# Altium footprint library PcbLib.PcbLib: 7 footprints
Each footprint in its own frame and in the unit in brackets; x right, y up, seen from the top. Pads: shape width x height; smd on the part's side, far side on the other; paste and mask are expansions set on the pad; w line width, h text height; cw(c..) or ccw(c..) is an arc to the next point about the centre after c.
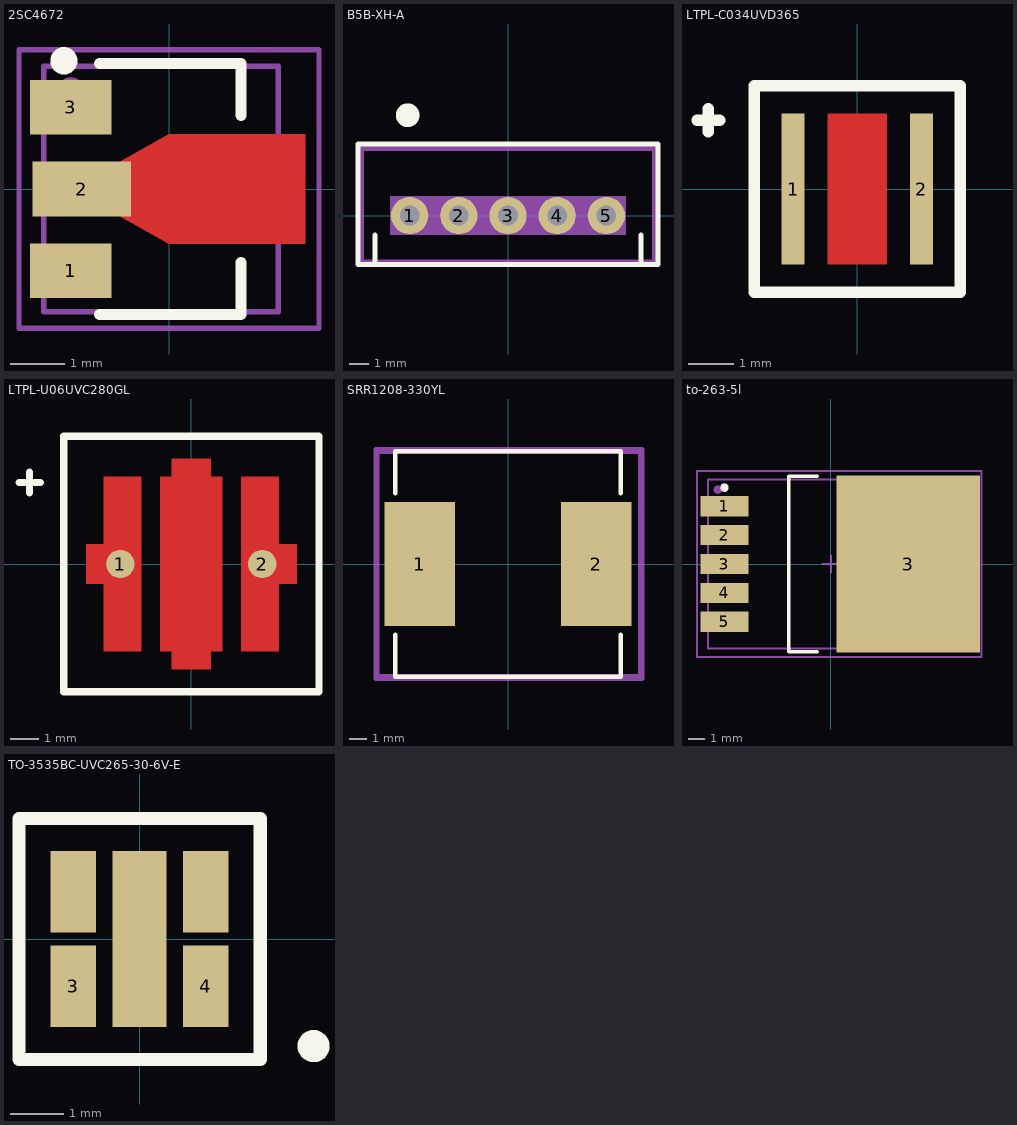
[diagram p0: the footprints below, top view; thin cyan lines are the x and y axes]

## 2SC4672 [mm] "Transistor"
pads (4):
  rect 1.5x1 smd: 1(-1.8,-1.5) 3(-1.8,1.5)
  rect 1.8x1 smd: 2(-1.6,0)
  round 0.5 on Mech1: ""(-1.8,1.8)
Top Layer:
  region: -0.9,0.5 0,1 2.5,1 2.5,-1 0,-1 -0.9,-0.5
Top Overlay:
  circle w0.25: c-1.927,2.35 r0.125
  lines w0.2: -1.278,-2.3 1.322,-2.3 1.322,-1.35 ; -1.278,2.3 1.322,2.3 1.322,1.35
Mechanical 1:
  lines w0.1: -2.3,-2.25 -2.3,2.25 2,2.25 2,-2.25 -2.3,-2.25
Mechanical 15:
  lines w0.1: -0.477,0 0.523,0 ; 0.022,-0.5 0.022,0.5 ; -2.75,-2.55 2.75,-2.55 2.75,2.55 -2.75,2.55 -2.75,-2.55
3D body "SOT-89.step": height 1.51, standoff 0, extent -2.3,-2.25 2,2.25

## B5B-XH-A [mm] "Вилка на плату 2.50мм прямая"
pads (5):
  round 1.9 hole 1: 1(-5,0) 2(-2.5,0) 3(0,0) 4(2.5,0) 5(5,0)
Top Overlay:
  circle w1: c-5.1,5.1 r0.1
  lines w0.254: -6.75,-2.5 -6.75,-1 ; 6.75,-2.5 6.75,-1 ; -7.625,-2.5 0,-2.5 7.625,-2.5 7.625,3.625 0,3.625 -7.625,3.625 -7.625,-2.5
Mechanical 1:
  lines w0.254: -7.45,-2.35 -7.45,3.4 7.45,3.4 7.45,-2.35 -7.45,-2.35
Mechanical 13:
  rectangle: -6,-1 6,1
3D body: height -1, standoff -4, extent -6,-1 6,1

## LTPL-C034UVD365 [mm] "UV LED, 350mA"
pads (2):
  rect 0.5x3.3 smd: 1(-1.4,0) 2(1.4,0)
Top Layer:
  rectangle: -0.65,-1.65 0.65,1.65
Top Overlay:
  lines w0.25: -3.5,1.5 -3,1.5 ; -3.25,1.25 -3.25,1.75 ; -2.25,-2.25 0,-2.25 2.25,-2.25 2.25,2.25 0,2.25 -2.25,2.25 -2.25,-2.25

## LTPL-U06UVC280GL [mm] "UV LED, 20mA"
pads (2):
  round 1 smd: 1(-2.5,0) 2(2.5,0)
Top Layer:
  rectangle: -1.1,-3.09 1.1,3.09
  rectangle: -0.7,3.05 0.7,3.72
  rectangle: -0.7,-3.72 0.7,-3.05
  region: 3.72,-0.7 3.72,0.7 2.725,0.7 2.725,-0.7
  region: -2.925,-0.7 -2.925,0.7 -3.72,0.7 -3.72,-0.7
  rectangle: 1.75,-3.09 3.09,3.09
  rectangle: -3.09,-3.09 -1.75,3.09
Top Overlay:
  lines w0.25: -6.075,2.875 -5.325,2.875 ; -5.7,2.5 -5.7,3.25
  lines w0.254: -4.5,-4.5 -4.5,4.5 4.5,4.5 4.5,4 4.5,0 4.5,-4.5 -4.5,-4.5

## SRR1208-330YL [mm] "Inductor"
pads (2):
  rect 4x7 smd: 1(-5,0) 2(5,0)
Top Overlay:
  lines w0.254: -6.4,-4 -6.4,-6.4 6.4,-6.4 6.4,-4 ; -6.4,4 -6.4,6.4 6.4,6.4 6.4,4
Mechanical 1:
  lines w0.254: -7.4,-6.35 -7.4,-0.95 -7.4,6.35 ; -7.3,-6.35 0,-6.35 7.5,-6.35 7.5,1.15 7.5,6.35 0,6.35 -7.3,6.35
Mechanical 15:
  lines w0.254: -7.5,-6.5 -7.5,6.5 7.6,6.5 7.6,-6.5 -7.5,-6.5

## to-263-5l [mm]
pads (7):
  rect 2.85x1.2 smd: 1(-6.3,3.42) 2(-6.3,1.71) 3(-6.3,0) 4(-6.3,-1.71) 5(-6.3,-3.42)
  rect 8.5x10.5 smd: 3(4.572,0)
  round 0.5 on Mech1: ""(-6.7,4.4)
Top Overlay:
  circle w0.25: c-6.3,4.52 r0.125
  lines w0.2: -0.8,-5.2 -2.5,-5.2 -2.5,5.2 -0.8,5.2
Mechanical 1:
  lines w0.1: -7.276,-5 -7.276,5 8.394,5 8.394,-5 -7.276,-5
Mechanical 15:
  lines w0.1: -0.5,0 0.5,0 ; 0,-0.5 0,0.5 ; -7.925,-5.5 8.9,-5.5 8.9,5.5 -7.925,5.5 -7.925,-5.5
3D body "TO263-5S.STEP": height 4.93, standoff 0.13, extent -7.276,-5 8.394,5

## TO-3535BC-UVC265-30-6V-E [mm] "UV LED, 30mA"
pads (5):
  rect 0.85x1.52 smd: 3(-1.235,-0.885) 4(1.235,-0.885) ""(-1.235,0.885) ""(1.235,0.885)
  rect 1x3.28 smd: ""(0,0)
Top Overlay:
  circle w0.4: c3.25,-2 r0.1
  lines w0.25: -2.25,-2.25 2.25,-2.25 2.25,2.25 -2.25,2.25 -2.25,-2.25